# EAGLE library part NINA-B306-00B-00 (library NINA-B306-00B-00(resp))
With internal PCB antenna, 10.0 x 15.0 x 2.2 mm, use with open CPU Check availability <https://pricing.snapeda.com/parts/NINA-B306-00B-00/U-Blox%20America%20Inc./view-part?ref=eda>
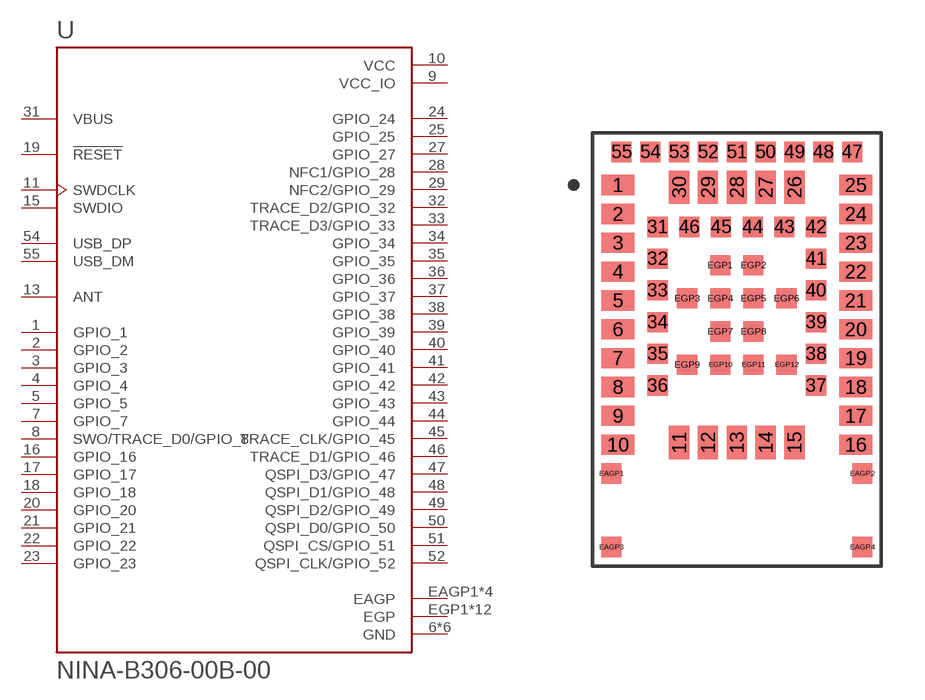
[diagram p0: symbol with the pads of XCVR_NINA-B306-00B-00; footprint XCVR_NINA-B306-00B-00]

Designator prefix U

## NINA-B306-00B-00 (Availability: In Stock; Description: With internal PCB antenna, 10.0 x 15.0 x 2.2 mm, use with open CPU; MF: U-Blox America Inc.; MP: NINA-B306-00B-00; Package: SMD-55 U-Blox; Price: None; Purchase-URL: https://pricing.snapeda.com/search/part/NINA-B306-00B-00/?ref=eda)  [XCVR_NINA-B306-00B-00]
1  GPIO_1
2  GPIO_2
3  GPIO_3
4  GPIO_4
5  GPIO_5
6  GND  pwr
7  GPIO_7
8  SWO/TRACE_D0/GPIO_8
9  VCC_IO  pwr
10  VCC  pwr
11  SWDCLK  in
12  GND  pwr
13  ANT
14  GND  pwr
15  SWDIO
16  GPIO_16
17  GPIO_17
18  GPIO_18
19  !RESET
20  GPIO_20
21  GPIO_21
22  GPIO_22
23  GPIO_23
24  GPIO_24
25  GPIO_25
26  GND  pwr
27  GPIO_27
28  NFC1/GPIO_28
29  NFC2/GPIO_29
30  GND  pwr
31  VBUS  in
32  TRACE_D2/GPIO_32
33  TRACE_D3/GPIO_33
34  GPIO_34
35  GPIO_35
36  GPIO_36
37  GPIO_37
38  GPIO_38
39  GPIO_39
40  GPIO_40
41  GPIO_41
42  GPIO_42
43  GPIO_43
44  GPIO_44
45  TRACE_CLK/GPIO_45
46  TRACE_D1/GPIO_46
47  QSPI_D3/GPIO_47
48  QSPI_D1/GPIO_48
49  QSPI_D2/GPIO_49
50  QSPI_D0/GPIO_50
51  QSPI_CS/GPIO_51
52  QSPI_CLK/GPIO_52
53  GND  pwr
54  USB_DP
55  USB_DM
EAGP1  EAGP  pwr
EAGP2  EAGP  pwr
EAGP3  EAGP  pwr
EAGP4  EAGP  pwr
EGP1  EGP  pwr
EGP2  EGP  pwr
EGP3  EGP  pwr
EGP4  EGP  pwr
EGP5  EGP  pwr
EGP6  EGP  pwr
EGP7  EGP  pwr
EGP8  EGP  pwr
EGP9  EGP  pwr
EGP10  EGP  pwr
EGP11  EGP  pwr
EGP12  EGP  pwr

## Footprint XCVR_NINA-B306-00B-00 (pad centres in mm)
smd 1.15 x 0.7: 1 -4.125,5.7; 2 -4.125,4.7; 3 -4.125,3.7; 4 -4.125,2.7; 5 -4.125,1.7; 6 -4.125,0.7; 7 -4.125,-0.3; 8 -4.125,-1.3; 9 -4.125,-2.3; 10 -4.125,-3.3; 16 4.125,-3.3; 17 4.125,-2.3; 18 4.125,-1.3; 19 4.125,-0.3; 20 4.125,0.7; 21 4.125,1.7; 22 4.125,2.7; 23 4.125,3.7; 24 4.125,4.7; 25 4.125,5.7
smd 0.7 x 1.15: 11 -2,-3.225; 12 -1,-3.225; 13 0,-3.225; 14 1,-3.225; 15 2,-3.225; 26 2,5.625; 27 1,5.625; 28 0,5.625; 29 -1,5.625; 30 -2,5.625
smd 0.7 x 0.7: 31 -2.75,4.25; 32 -2.75,3.15; 33 -2.75,2.05; 34 -2.75,0.95; 35 -2.75,-0.15; 36 -2.75,-1.25; 37 2.75,-1.25; 38 2.75,-0.15; 39 2.75,0.95; 40 2.75,2.05; 41 2.75,3.15; 42 2.75,4.25; 43 1.65,4.25; 44 0.55,4.25; 45 -0.55,4.25; 46 -1.65,4.25; 47 4,6.85; 48 3,6.85; 49 2,6.85; 50 1,6.85; 51 0,6.85; 52 -1,6.85; 53 -2,6.85; 54 -3,6.85; 55 -4,6.85; EAGP1 -4.35,-4.3; EAGP2 4.35,-4.3; EAGP3 -4.35,-6.85; EAGP4 4.35,-6.85; EGP1 -0.575,2.925; EGP2 0.575,2.925; EGP3 -1.725,1.775; EGP4 -0.575,1.775; EGP5 0.575,1.775; EGP6 1.725,1.775; EGP7 -0.575,0.625; EGP8 0.575,0.625; EGP9 -1.725,-0.525; EGP10 -0.575,-0.525; EGP11 0.575,-0.525; EGP12 1.725,-0.525